# Altium footprint library DPAK_M.PcbLib: 40 footprints (part 3 of 3)
Each footprint in its own frame and in the unit in brackets; x right, y up, seen from the top. Pads: shape width x height; smd on the part's side, far side on the other; paste and mask are expansions set on the pad; w line width, h text height; cw(c..) or ccw(c..) is an arc to the next point about the centre after c.
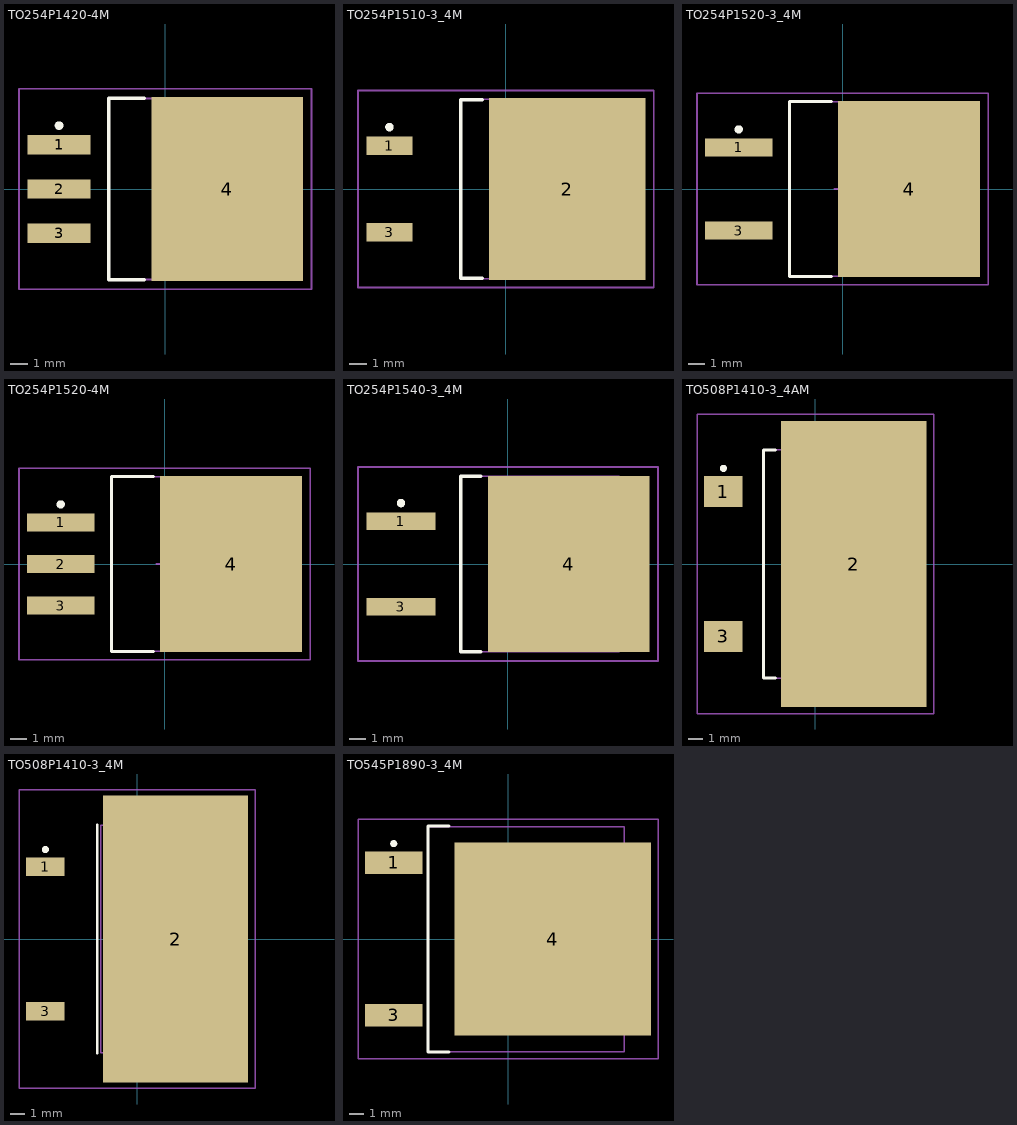
[diagram p2: the footprints below, top view; thin cyan lines are the x and y axes]

## TO254P1420-4M [mm] "D2-PAK, 4-Leads, Body 8.9x10.1mm, Pitch 2.54mm, Lead Span 14.2mm, IPC Low Density"
height 4.65
pads (4):
  rect 3.6x1.1 smd: 1(-6.1,2.54) 2(-6.1,0) 3(-6.1,-2.54)
  rect 8.7x10.55 smd: 4(3.55,0)
Top Overlay:
  circle w0.25: c-6.1,3.64 r0.125
  lines w0.2: -1.2,-5.2 -3.25,-5.2 -3.25,5.2 -1.2,5.2
Mechanical 13:
  lines w0.1: -3.25,-5.2 -3.25,5.2 6.15,5.2 6.15,-5.2 -3.25,-5.2
Mechanical 15:
  lines w0.1: -0.5,0 0.5,0 ; 0,-0.5 0,0.5 ; -8.4,-5.75 -8.4,5.75 8.4,5.75 8.4,-5.75 -8.4,-5.75
3D body: height 4.65, standoff 0, extent -3.25,-5.2 6.15,5.2

## TO254P1510-3_4M [mm] "D2-PAK, 4-Leads, Body 8.8x10.4mm, Pitch 2.54mm, Lead Span 15.1mm, IPC Low Density"
height 4.69
pads (3):
  rect 2.7x1.1 smd: 1(-6.85,2.54) 3(-6.85,-2.54)
  rect 9.2x10.7 smd: 2(3.6,0)
Top Overlay:
  circle w0.25: c-6.85,3.64 r0.125
  lines w0.2: -1.4,-5.25 -2.65,-5.25 -2.65,5.25 -1.4,5.25
Mechanical 13:
  lines w0.1: -2.65,-5.275 -2.65,5.275 6.35,5.275 6.35,-5.275 -2.65,-5.275
Mechanical 15:
  lines w0.1: -0.5,0 0.5,0 ; 0,-0.5 0,0.5 ; -8.7,-5.8 -8.7,5.8 8.7,5.8 8.7,-5.8 -8.7,-5.8
3D body: height 4.69, standoff 0, extent -2.65,-5.275 6.35,5.275

## TO254P1520-3_4M [mm] "D2-PAK, 4-Leads, Body 9x10.2mm, Pitch 2.54mm, Lead Span 15.2mm, IPC Low Density"
height 4.83
pads (3):
  rect 4.1x1.1 smd: 1(-6.35,2.54) 3(-6.35,-2.54)
  rect 8.7x10.75 smd: 4(4.05,0)
Top Overlay:
  circle w0.25: c-6.35,3.64 r0.125
  lines w0.2: -0.7,-5.35 -3.25,-5.35 -3.25,5.35 -0.7,5.35
Mechanical 13:
  lines w0.1: -3.25,-5.325 -3.25,5.325 6.4,5.325 6.4,-5.325 -3.25,-5.325
Mechanical 15:
  lines w0.1: -0.5,0 0.5,0 ; 0,-0.5 0,0.5 ; -8.9,-5.85 -8.9,5.85 8.9,5.85 8.9,-5.85 -8.9,-5.85
3D body: height 4.83, standoff 0, extent -3.25,-5.325 6.4,5.325

## TO254P1520-4M [mm] "D2-PAK, 4-Leads, Body 9x10.2mm, Pitch 2.54mm, Lead Span 15.2mm, IPC Low Density"
height 4.83
pads (4):
  rect 4.1x1.1 smd: 1(-6.35,2.54) 2(-6.35,0) 3(-6.35,-2.54)
  rect 8.7x10.75 smd: 4(4.05,0)
Top Overlay:
  circle w0.25: c-6.35,3.64 r0.125
  lines w0.2: -0.7,-5.35 -3.25,-5.35 -3.25,5.35 -0.7,5.35
Mechanical 13:
  lines w0.1: -3.25,-5.325 -3.25,5.325 6.4,5.325 6.4,-5.325 -3.25,-5.325
Mechanical 15:
  lines w0.1: -0.5,0 0.5,0 ; 0,-0.5 0,0.5 ; -8.9,-5.85 -8.9,5.85 8.9,5.85 8.9,-5.85 -8.9,-5.85
3D body: height 4.83, standoff 0, extent -3.25,-5.325 6.4,5.325

## TO254P1540-3_4M [mm] "D2-PAK, 4-Leads, Body 9.2x10.2mm, Pitch 2.54mm, Lead Span 15.4mm, IPC Low Density"
height 4.6
pads (3):
  rect 4.1x1.05 smd: 1(-6.35,2.54) 3(-6.35,-2.54)
  rect 9.6x10.45 smd: 4(3.6,0)
Top Overlay:
  circle w0.25: c-6.35,3.615 r0.125
  lines w0.2: -1.6,-5.2 -2.8,-5.2 -2.8,5.2 -1.6,5.2
Mechanical 13:
  lines w0.1: -2.8,-5.2 -2.8,5.2 6.6,5.2 6.6,-5.2 -2.8,-5.2
Mechanical 15:
  lines w0.1: -0.5,0 0.5,0 ; 0,-0.5 0,0.5 ; -8.9,-5.75 -8.9,5.75 8.9,5.75 8.9,-5.75 -8.9,-5.75
3D body: height 4.6, standoff 0, extent -2.8,-5.2 6.6,5.2

## TO508P1410-3_4AM [mm] "Single-Ended SM Package, 4-Leads, Body 10.6x16mm, Pitch 5.08mm, Lead Span 14.1mm, IPC Low Density"
height 5.97
pads (3):
  rect 2.7x2.15 smd: 1(-6.45,5.08) 3(-6.45,-5.08)
  rect 10.2x20.05 smd: 2(2.7,0)
Top Overlay:
  circle w0.25: c-6.45,6.705 r0.125
  lines w0.2: -2.8,-8 -3.65,-8 -3.65,8 -2.8,8
Mechanical 13:
  lines w0.1: -3.65,-8 7.14,-8 7.14,8 -3.65,8 -3.65,-8
Mechanical 15:
  lines w0.1: -0.5,0 0.5,0 ; 0,-0.5 0,0.5 ; -8.3,-10.5 8.3,-10.5 8.3,10.5 -8.3,10.5 -8.3,-10.5
3D body: height 5.97, standoff 0, extent -3.65,-8 7.14,8

## TO508P1410-3_4M [mm] "Single-Ended SM Package, 4-Leads, Body 9.5x16mm, Pitch 5.08mm, Lead Span 14.1mm, IPC Low Density"
height 6
pads (3):
  rect 2.7x1.3 smd: 1(-6.45,5.08) 3(-6.45,-5.08)
  rect 10.2x20.15 smd: 2(2.7,0)
Top Overlay:
  circle w0.25: c-6.45,6.28 r0.125
  lines w0.2: -2.8,-8 -2.8,8
Mechanical 13:
  lines w0.1: -2.55,-8 -2.55,8 7.1,8 7.1,-8 -2.55,-8
Mechanical 15:
  lines w0.1: -0.5,0 0.5,0 ; 0,-0.5 0,0.5 ; -8.3,-10.5 -8.3,10.5 8.3,10.5 8.3,-10.5 -8.3,-10.5
3D body: height 6, standoff 0, extent -2.55,-8 7.1,8

## TO545P1890-3_4M [mm] "D3-PAK, 4-Leads, Body 13.9x16mm, Pitch 5.45mm, Lead Span 18.9mm, IPC Low Density"
height 5.1
pads (3):
  rect 4.1x1.6 smd: 1(-8.15,5.45) 3(-8.15,-5.45)
  rect 14x13.75 smd: 4(3.2,0)
Top Overlay:
  circle w0.25: c-8.15,6.8 r0.125
  lines w0.2: -4.2,-8.05 -5.7,-8.05 -5.7,8.05 -4.2,8.05
Mechanical 13:
  lines w0.1: -5.7,-8.025 8.3,-8.025 8.3,8.025 -5.7,8.025 -5.7,-8.025
Mechanical 15:
  lines w0.1: -0.5,0 0.5,0 ; 0,-0.5 0,0.5 ; -10.7,-8.55 10.7,-8.55 10.7,8.55 -10.7,8.55 -10.7,-8.55
3D body: height 5.1, standoff 0, extent -5.7,-8.025 8.3,8.025